# EAGLE library part PICKIT_CON (library micromouse)
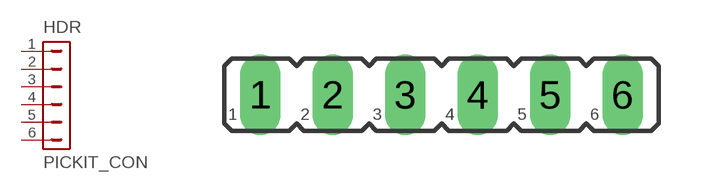
[diagram p4: symbol with the pads of 6PIN; footprint 6PIN]

Designator prefix HDR

## PICKIT_CON  [6PIN]
1  1  pas
2  2  pas
3  3  pas
4  4  pas
5  5  pas
6  6  pas

## Footprint 6PIN (pad centres in mm)
JUMPER
drill 0.914 long: 1 -2.54,0; 2 0,0; 3 2.54,0; 4 5.08,0; 5 7.62,0; 6 10.16,0